# EAGLE library part MICROCLASP_28POS (library Victor)
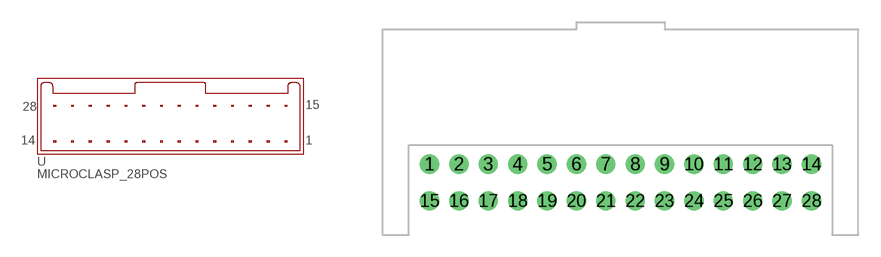
[diagram p4: symbol with the pads of MICROCLASP_28POS; footprint MICROCLASP_28POS]

Designator prefix -

## MICROCLASP_28POS  [MICROCLASP_28POS]
1  1
2  2
3  3
4  4
5  5
6  6
7  7
8  8
9  9
10  10
11  11
12  12
13  13
14  14
15  15
16  16
17  17
18  18
19  19
20  20
21  21
22  22
23  23
24  24
25  25
26  26
27  27
28  28

## Footprint MICROCLASP_28POS (pad centres in mm)
drill 0.8 round: 1 -13,0; 2 -11,0; 3 -9,0; 4 -7,0; 5 -5,0; 6 -3,0; 7 -1,0; 8 1,0; 9 3,0; 10 5,0; 11 7,0; 12 9,0; 13 11,0; 14 13,0; 15 -13,-2.5; 16 -11,-2.5; 17 -9,-2.5; 18 -7,-2.5; 19 -5,-2.5; 20 -3,-2.5; 21 -1,-2.5; 22 1,-2.5; 23 3,-2.5; 24 5,-2.5; 25 7,-2.5; 26 9,-2.5; 27 11,-2.5; 28 13,-2.5